# EAGLE library part 64900621122 (library Wuerth_Elektronik_eiCan_07_Mini_Power_Connectors)
WR-MPC4 4.20mm Male Dual Row Vertical Header, 6 Pins
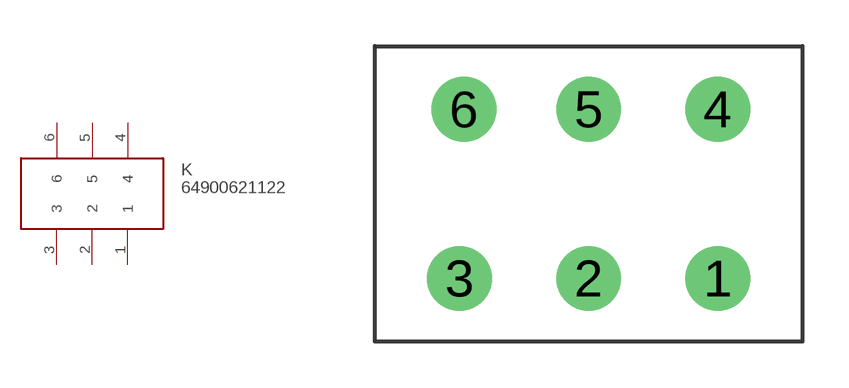
[diagram p30: symbol with the pads of 64900621122; footprint 64900621122]

Designator prefix K

## 64900621122  [64900621122]
1  1
2  2
3  3
4  4
5  5
6  6

## Footprint 64900621122 (pad centres in mm)
WR-MPC4 4.20mm Male Dual Row Vertical Header, 6 Pins
drill 1.4 round: 1 0,-2.75; 2 -4.2,-2.75; 3 -8.4,-2.75; 4 0,2.75; 5 -4.2,2.75; 6 -8.255,2.75